# EAGLE library part MI0283QT (library ERNW_parts)
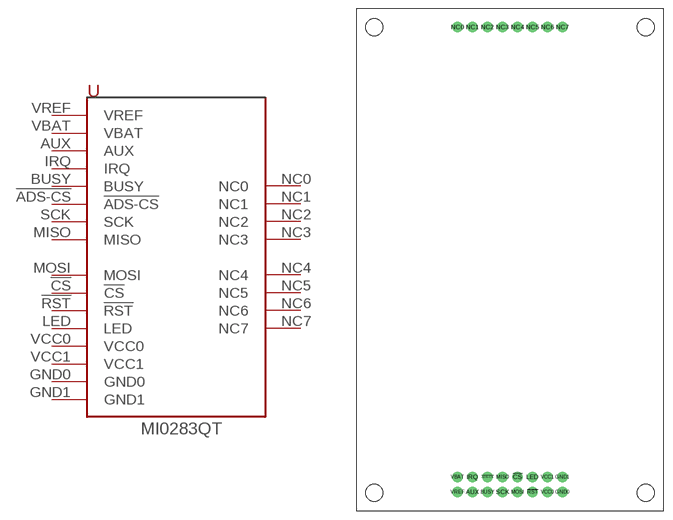
[diagram p10: symbol with the pads of MI0283QT; footprint MI0283QT]

Designator prefix -

## MI0283QT  [MI0283QT]
!ADS-CS  !ADS-CS
!CS  !CS
!RST  !RST
AUX  AUX
BUSY  BUSY
GND0  GND0
GND1  GND1
IRQ  IRQ
LED  LED
MISO  MISO
MOSI  MOSI
NC0  NC0
NC1  NC1
NC2  NC2
NC3  NC3
NC4  NC4
NC5  NC5
NC6  NC6
NC7  NC7
SCK  SCK
VBAT  VBAT
VCC0  VCC0
VCC1  VCC1
VREF  VREF

## Footprint MI0283QT (pad centres in mm)
drill 1.02 pad 1.778: !ADS-CS -3.81,-36.785; !CS 1.27,-36.785; !RST 3.81,-39.325; AUX -6.35,-39.325; BUSY -3.81,-39.325; GND0 8.89,-39.325; GND1 8.89,-36.785; IRQ -6.35,-36.785; LED 3.81,-36.785; MISO -1.27,-36.785; MOSI 1.27,-39.325; NC0 -8.89,39.415; NC1 -6.35,39.415; NC2 -3.81,39.415; NC3 -1.27,39.415; NC4 1.27,39.415; NC5 3.81,39.415; NC6 6.35,39.415; NC7 8.89,39.415; SCK -1.27,-39.325; VBAT -8.89,-36.785; VCC0 6.35,-39.325; VCC1 6.35,-36.785; VREF -8.89,-39.325
hole 2.89 at -23,39.415
hole 2.89 at 23,39.415
hole 2.89 at 23,-39.5
hole 2.89 at -23,-39.5